# Altium integrated library ON Semi Transient Voltage Suppressors (TVS).IntLib: 730 symbols (part 4 of 17)
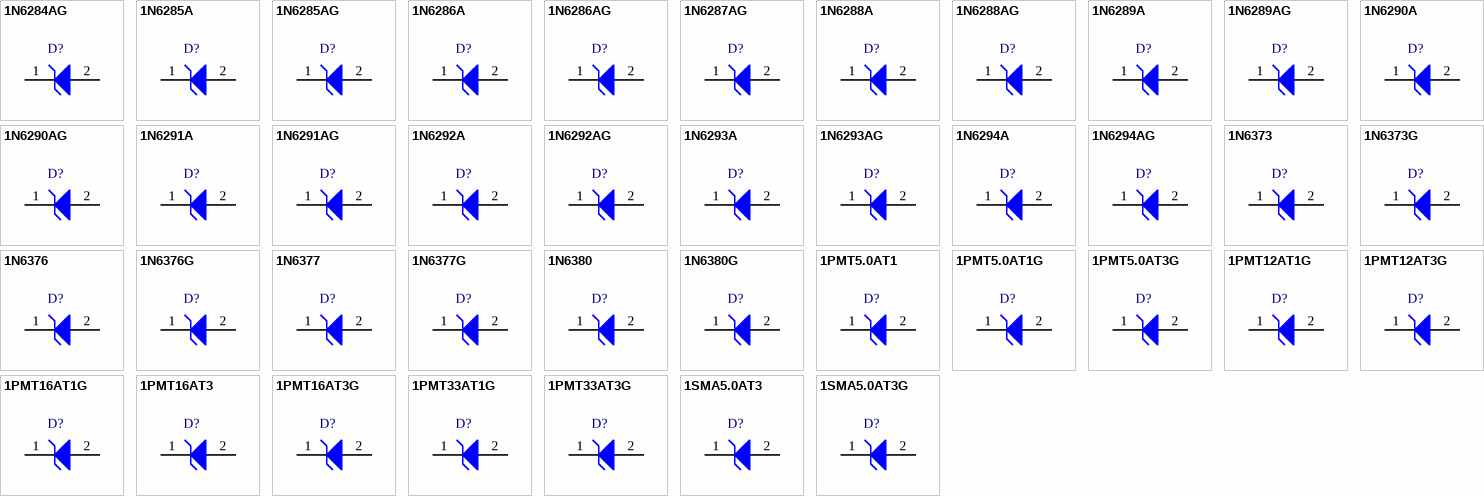
[diagram p21: symbols 1N6284AG to 1SMA5.0AT3G]

## 1N6376G
designator D?
1500 W Peak Power, Mosorb(TM) Zener Transient Voltage Suppressor, 2-Pin MOSORB, Pb-Free, Bulk Box; Manufacturer: On Semiconductor; PartNumber: 1N6376G; Direction: Unidirectional; IR Max (uA): 2; PPK Max (W): 1500; DatasheetVersion: Rev. 5; PackageVersion: Rev. D, 01/2002; PackageReference: MOSORB-2-41A-04; PackageDescription: 2-Pin, Axial Lead, Diameter 5.05 mm; Supplier 1: Digi-Key; Supplier Part Number 1: 1N6376GOS-ND; Supplier 2: Farnell; Supplier Part Number 2: 1651574; Supplier 3: Newark; Supplier Part Number 3: 42K3063; Supplier 4: Mouser; Supplier Part Number 4: 863-1N6376G; Packing: Bulk Box; RoHS: Pb-Free; Mounting Technology: Through Hole; ComponentLink1Description: Manufacturer URL; ComponentLink1URL: http://www.onsemi.com/; ComponentLink2Description: Datasheet; ComponentLink2URL: http://www.onsemi.com/pub_link/Collateral/1N6373-D.PDF; ComponentLink3Description: Package Specification; ComponentLink3URL: http://www.onsemi.com/pub_link/Collateral/41A-04.PDF
footprint ONSC-MOSORB-2-41A-04 (AXIAL, 2-Leads, Diameter 5.05mm)
pins: 1 K, 2 A

## 1N6377
designator D?
1500 W Peak Power, Mosorb(TM) Zener Transient Voltage Suppressor, 2-Pin MOSORB, Bulk Box; Manufacturer: On Semiconductor; PartNumber: 1N6377; Direction: Unidirectional; IR Max (uA): 2; PPK Max (W): 1500; DatasheetVersion: Rev. 5; PackageVersion: Rev. D, 01/2002; PackageReference: MOSORB-2-41A-04; PackageDescription: 2-Pin, Axial Lead, Diameter 5.05 mm; Supplier 1: Digi-Key; Supplier Part Number 1: 1N6377OS-ND; Packing: Bulk Box; Mounting Technology: Through Hole; ComponentLink1Description: Manufacturer URL; ComponentLink1URL: http://www.onsemi.com/; ComponentLink2Description: Datasheet; ComponentLink2URL: http://www.onsemi.com/pub_link/Collateral/1N6373-D.PDF; ComponentLink3Description: Package Specification; ComponentLink3URL: http://www.onsemi.com/pub_link/Collateral/41A-04.PDF
footprint ONSC-MOSORB-2-41A-04 (AXIAL, 2-Leads, Diameter 5.05mm)
pins: 1 K, 2 A

## 1N6377G
designator D?
1500 W Peak Power, Mosorb(TM) Zener Transient Voltage Suppressor, 2-Pin MOSORB, Pb-Free, Bulk Box; Manufacturer: On Semiconductor; PartNumber: 1N6377G; Direction: Unidirectional; IR Max (uA): 2; PPK Max (W): 1500; DatasheetVersion: Rev. 5; PackageVersion: Rev. D, 01/2002; PackageReference: MOSORB-2-41A-04; PackageDescription: 2-Pin, Axial Lead, Diameter 5.05 mm; Supplier 1: Digi-Key; Supplier Part Number 1: 1N6377GOS-ND; Supplier 2: Farnell; Supplier Part Number 2: 1611211; Supplier 3: Newark; Supplier Part Number 3: 42K3065; Supplier 4: Mouser; Supplier Part Number 4: 863-1N6377G; Packing: Bulk Box; RoHS: Pb-Free; Mounting Technology: Through Hole; ComponentLink1Description: Manufacturer URL; ComponentLink1URL: http://www.onsemi.com/; ComponentLink2Description: Datasheet; ComponentLink2URL: http://www.onsemi.com/pub_link/Collateral/1N6373-D.PDF; ComponentLink3Description: Package Specification; ComponentLink3URL: http://www.onsemi.com/pub_link/Collateral/41A-04.PDF
footprint ONSC-MOSORB-2-41A-04 (AXIAL, 2-Leads, Diameter 5.05mm)
pins: 1 K, 2 A

## 1N6380
designator D?
1500 W Peak Power, Mosorb(TM) Zener Transient Voltage Suppressor, 2-Pin MOSORB, Bulk Box; Manufacturer: On Semiconductor; PartNumber: 1N6380; Direction: Unidirectional; IR Max (uA): 2; PPK Max (W): 1500; DatasheetVersion: Rev. 5; PackageVersion: Rev. D, 01/2002; PackageReference: MOSORB-2-41A-04; PackageDescription: 2-Pin, Axial Lead, Diameter 5.05 mm; Supplier 1: Digi-Key; Supplier Part Number 1: 1N6380OS-ND; Supplier 2: Mouser; Supplier Part Number 2: 863-1N6380; Packing: Bulk Box; Mounting Technology: Through Hole; ComponentLink1Description: Manufacturer URL; ComponentLink1URL: http://www.onsemi.com/; ComponentLink2Description: Datasheet; ComponentLink2URL: http://www.onsemi.com/pub_link/Collateral/1N6373-D.PDF; ComponentLink3Description: Package Specification; ComponentLink3URL: http://www.onsemi.com/pub_link/Collateral/41A-04.PDF
footprint ONSC-MOSORB-2-41A-04 (AXIAL, 2-Leads, Diameter 5.05mm)
pins: 1 K, 2 A

## 1N6380G
designator D?
1500 W Peak Power, Mosorb(TM) Zener Transient Voltage Suppressor, 2-Pin MOSORB, Pb-Free, Bulk Box; Manufacturer: On Semiconductor; PartNumber: 1N6380G; Direction: Unidirectional; IR Max (uA): 2; PPK Max (W): 1500; DatasheetVersion: Rev. 5; PackageVersion: Rev. D, 01/2002; PackageReference: MOSORB-2-41A-04; PackageDescription: 2-Pin, Axial Lead, Diameter 5.05 mm; Supplier 1: Digi-Key; Supplier Part Number 1: 1N6380GOS-ND; Supplier 2: Farnell; Supplier Part Number 2: 1459009; Supplier 3: Newark; Supplier Part Number 3: 42K3069; Supplier 4: Mouser; Supplier Part Number 4: 863-1N6380G; Packing: Bulk Box; RoHS: Pb-Free; Mounting Technology: Through Hole; ComponentLink1Description: Manufacturer URL; ComponentLink1URL: http://www.onsemi.com/; ComponentLink2Description: Datasheet; ComponentLink2URL: http://www.onsemi.com/pub_link/Collateral/1N6373-D.PDF; ComponentLink3Description: Package Specification; ComponentLink3URL: http://www.onsemi.com/pub_link/Collateral/41A-04.PDF
footprint ONSC-MOSORB-2-41A-04 (AXIAL, 2-Leads, Diameter 5.05mm)
pins: 1 K, 2 A

## 1PMT5.0AT1
designator D?
Zener Transient Voltage Suppressor, 2-Pin POWERMITE, Tape and Reel; Manufacturer: On Semiconductor; PartNumber: 1PMT5.0AT1; Direction: Unidirectional; IR Max (uA): 50; V(BR) Typ (V): 6.7; DatasheetVersion: Rev. 10; PackageVersion: Rev. F, 05/2013; PackageReference: POWERMITE-2-457-04; PackageDescription: 2-Pin POWERMITE, Body 1.965 x 1.9 mm; Supplier 1: Digi-Key; Supplier Part Number 1: 1PMT5.0AT1OSTR-ND; Supplier 2: Digi-Key; Supplier Part Number 2: 1PMT5.0AT1OSCT-ND; Supplier 3: Digi-Key; Supplier Part Number 3: 1PMT5.0AT1OSDKR-ND; Packing: Tape and Reel; Mounting Technology: Surface Mount; ComponentLink1Description: Manufacturer URL; ComponentLink1URL: http://www.onsemi.com/; ComponentLink2Description: Datasheet; ComponentLink2URL: http://www.onsemi.com/pub_link/Collateral/1PMT5.0AT3-D.PDF; ComponentLink3Description: Package Specification; ComponentLink3URL: http://www.onsemi.com/pub_link/Collateral/457-04.PDF
footprint ONSC-POWERMITE-2-457-04_D_V (POWERMITE, 2-Leads, Body 1.965x1.9mm)
pins: 1 K, 2 A

## 1PMT5.0AT1G
designator D?
Zener Transient Voltage Suppressor, 2-Pin POWERMITE, Pb-Free, Tape and Reel; Manufacturer: On Semiconductor; PartNumber: 1PMT5.0AT1G; Direction: Unidirectional; IR Max (uA): 50; V(BR) Typ (V): 6.7; DatasheetVersion: Rev. 10; PackageVersion: Rev. F, 05/2013; PackageReference: POWERMITE-2-457-04; PackageDescription: 2-Pin POWERMITE, Body 1.965 x 1.9 mm; Supplier 1: Digi-Key; Supplier Part Number 1: 1PMT5.0AT1GOSTR-ND; Supplier 2: Digi-Key; Supplier Part Number 2: 1PMT5.0AT1GOSCT-ND; Supplier 3: Digi-Key; Supplier Part Number 3: 1PMT5.0AT1GOSDKR-ND; Supplier 4: Farnell; Supplier Part Number 4: 2369440; Supplier 5: Newark; Supplier Part Number 5: 45J2402; Supplier 6: Newark; Supplier Part Number 6: 10N9647; Supplier 7: Mouser; Supplier Part Number 7: 863-1PMT5.0AT1G; Packing: Tape and Reel; RoHS: Pb-Free; Mounting Technology: Surface Mount; ComponentLink1Description: Manufacturer URL; ComponentLink1URL: http://www.onsemi.com/; ComponentLink2Description: Datasheet; ComponentLink2URL: http://www.onsemi.com/pub_link/Collateral/1PMT5.0AT3-D.PDF; ComponentLink3Description: Package Specification; ComponentLink3URL: http://www.onsemi.com/pub_link/Collateral/457-04.PDF
footprint ONSC-POWERMITE-2-457-04_D_V (POWERMITE, 2-Leads, Body 1.965x1.9mm)
pins: 1 K, 2 A

## 1PMT5.0AT3G
designator D?
Zener Transient Voltage Suppressor, 2-Pin POWERMITE, Pb-Free, Tape and Reel; Manufacturer: On Semiconductor; PartNumber: 1PMT5.0AT3G; Direction: Unidirectional; IR Max (uA): 50; V(BR) Typ (V): 6.7; DatasheetVersion: Rev. 10; PackageVersion: Rev. F, 05/2013; PackageReference: POWERMITE-2-457-04; PackageDescription: 2-Pin POWERMITE, Body 1.965 x 1.9 mm; Supplier 1: Digi-Key; Supplier Part Number 1: 1PMT5.0AT3G-ND; Supplier 2: Mouser; Supplier Part Number 2: 863-1PMT5.0AT3G; Packing: Tape and Reel; RoHS: Pb-Free; Mounting Technology: Surface Mount; ComponentLink1Description: Manufacturer URL; ComponentLink1URL: http://www.onsemi.com/; ComponentLink2Description: Datasheet; ComponentLink2URL: http://www.onsemi.com/pub_link/Collateral/1PMT5.0AT3-D.PDF; ComponentLink3Description: Package Specification; ComponentLink3URL: http://www.onsemi.com/pub_link/Collateral/457-04.PDF
footprint ONSC-POWERMITE-2-457-04_D_V (POWERMITE, 2-Leads, Body 1.965x1.9mm)
pins: 1 K, 2 A

## 1PMT12AT1G
designator D?
Zener Transient Voltage Suppressor, 2-Pin POWERMITE, Pb-Free, Tape and Reel; Manufacturer: On Semiconductor; PartNumber: 1PMT12AT1G; Direction: Unidirectional; IR Max (uA): 1; V(BR) Typ (V): 14; DatasheetVersion: Rev. 10; PackageVersion: Rev. F, 05/2013; PackageReference: POWERMITE-2-457-04; PackageDescription: 2-Pin POWERMITE, Body 1.965 x 1.9 mm; Supplier 1: Digi-Key; Supplier Part Number 1: 1PMT12AT1GOSTR-ND; Supplier 2: Digi-Key; Supplier Part Number 2: 1PMT12AT1GOSCT-ND; Supplier 3: Digi-Key; Supplier Part Number 3: 1PMT12AT1GOSDKR-ND; Supplier 4: Newark; Supplier Part Number 4: 45J2399; Supplier 5: Mouser; Supplier Part Number 5: 863-1PMT12AT1G; Packing: Tape and Reel; RoHS: Pb-Free; Mounting Technology: Surface Mount; ComponentLink1Description: Manufacturer URL; ComponentLink1URL: http://www.onsemi.com/; ComponentLink2Description: Datasheet; ComponentLink2URL: http://www.onsemi.com/pub_link/Collateral/1PMT5.0AT3-D.PDF; ComponentLink3Description: Package Specification; ComponentLink3URL: http://www.onsemi.com/pub_link/Collateral/457-04.PDF
footprint ONSC-POWERMITE-2-457-04_D_V (POWERMITE, 2-Leads, Body 1.965x1.9mm)
pins: 1 K, 2 A

## 1PMT12AT3G
designator D?
Zener Transient Voltage Suppressor, 2-Pin POWERMITE, Pb-Free, Tape and Reel; Manufacturer: On Semiconductor; PartNumber: 1PMT12AT3G; Direction: Unidirectional; IR Max (uA): 1; V(BR) Typ (V): 14; DatasheetVersion: Rev. 10; PackageVersion: Rev. F, 05/2013; PackageReference: POWERMITE-2-457-04; PackageDescription: 2-Pin POWERMITE, Body 1.965 x 1.9 mm; Supplier 1: Digi-Key; Supplier Part Number 1: 1PMT12AT3G-ND; Supplier 2: Mouser; Supplier Part Number 2: 863-1PMT12AT3G; Packing: Tape and Reel; RoHS: Pb-Free; Mounting Technology: Surface Mount; ComponentLink1Description: Manufacturer URL; ComponentLink1URL: http://www.onsemi.com/; ComponentLink2Description: Datasheet; ComponentLink2URL: http://www.onsemi.com/pub_link/Collateral/1PMT5.0AT3-D.PDF; ComponentLink3Description: Package Specification; ComponentLink3URL: http://www.onsemi.com/pub_link/Collateral/457-04.PDF
footprint ONSC-POWERMITE-2-457-04_D_V (POWERMITE, 2-Leads, Body 1.965x1.9mm)
pins: 1 K, 2 A

## 1PMT16AT1G
designator D?
Zener Transient Voltage Suppressor, 2-Pin POWERMITE, Pb-Free, Tape and Reel; Manufacturer: On Semiconductor; PartNumber: 1PMT16AT1G; Direction: Unidirectional; IR Max (uA): 1; V(BR) Typ (V): 18.75; DatasheetVersion: Rev. 10; PackageVersion: Rev. F, 05/2013; PackageReference: POWERMITE-2-457-04; PackageDescription: 2-Pin POWERMITE, Body 1.965 x 1.9 mm; Supplier 1: Digi-Key; Supplier Part Number 1: 1PMT16AT1GOSTR-ND; Supplier 2: Digi-Key; Supplier Part Number 2: 1PMT16AT1GOSCT-ND; Supplier 3: Mouser; Supplier Part Number 3: 863-1PMT16AT1G; Packing: Tape and Reel; RoHS: Pb-Free; Mounting Technology: Surface Mount; ComponentLink1Description: Manufacturer URL; ComponentLink1URL: http://www.onsemi.com/; ComponentLink2Description: Datasheet; ComponentLink2URL: http://www.onsemi.com/pub_link/Collateral/1PMT5.0AT3-D.PDF; ComponentLink3Description: Package Specification; ComponentLink3URL: http://www.onsemi.com/pub_link/Collateral/457-04.PDF
footprint ONSC-POWERMITE-2-457-04_D_V (POWERMITE, 2-Leads, Body 1.965x1.9mm)
pins: 1 K, 2 A

## 1PMT16AT3
designator D?
Zener Transient Voltage Suppressor, 2-Pin POWERMITE, Tape and Reel; Manufacturer: On Semiconductor; PartNumber: 1PMT16AT3; Direction: Unidirectional; IR Max (uA): 1; V(BR) Typ (V): 18.75; DatasheetVersion: Rev. 10; PackageVersion: Rev. F, 05/2013; PackageReference: POWERMITE-2-457-04; PackageDescription: 2-Pin POWERMITE, Body 1.965 x 1.9 mm; Supplier 1: Digi-Key; Supplier Part Number 1: 1PMT16AT3-ND; Packing: Tape and Reel; Mounting Technology: Surface Mount; ComponentLink1Description: Manufacturer URL; ComponentLink1URL: http://www.onsemi.com/; ComponentLink2Description: Datasheet; ComponentLink2URL: http://www.onsemi.com/pub_link/Collateral/1PMT5.0AT3-D.PDF; ComponentLink3Description: Package Specification; ComponentLink3URL: http://www.onsemi.com/pub_link/Collateral/457-04.PDF
footprint ONSC-POWERMITE-2-457-04_D_V (POWERMITE, 2-Leads, Body 1.965x1.9mm)
pins: 1 K, 2 A

## 1PMT16AT3G
designator D?
Zener Transient Voltage Suppressor, 2-Pin POWERMITE, Pb-Free, Tape and Reel; Manufacturer: On Semiconductor; PartNumber: 1PMT16AT3G; Direction: Unidirectional; IR Max (uA): 1; V(BR) Typ (V): 18.75; DatasheetVersion: Rev. 10; PackageVersion: Rev. F, 05/2013; PackageReference: POWERMITE-2-457-04; PackageDescription: 2-Pin POWERMITE, Body 1.965 x 1.9 mm; Supplier 1: Digi-Key; Supplier Part Number 1: 1PMT16AT3GOS-ND; Supplier 2: Newark; Supplier Part Number 2: 83H7916; Supplier 3: Mouser; Supplier Part Number 3: 863-1PMT16AT3G; Packing: Tape and Reel; RoHS: Pb-Free; Mounting Technology: Surface Mount; ComponentLink1Description: Manufacturer URL; ComponentLink1URL: http://www.onsemi.com/; ComponentLink2Description: Datasheet; ComponentLink2URL: http://www.onsemi.com/pub_link/Collateral/1PMT5.0AT3-D.PDF; ComponentLink3Description: Package Specification; ComponentLink3URL: http://www.onsemi.com/pub_link/Collateral/457-04.PDF
footprint ONSC-POWERMITE-2-457-04_D_V (POWERMITE, 2-Leads, Body 1.965x1.9mm)
pins: 1 K, 2 A

## 1PMT33AT1G
designator D?
Zener Transient Voltage Suppressor, 2-Pin POWERMITE, Pb-Free, Tape and Reel; Manufacturer: On Semiconductor; PartNumber: 1PMT33AT1G; Direction: Unidirectional; IR Max (uA): 1; V(BR) Typ (V): 38.7; DatasheetVersion: Rev. 10; PackageVersion: Rev. F, 05/2013; PackageReference: POWERMITE-2-457-04; PackageDescription: 2-Pin POWERMITE, Body 1.965 x 1.9 mm; Supplier 1: Digi-Key; Supplier Part Number 1: 1PMT33AT1GOS-ND; Supplier 2: Mouser; Supplier Part Number 2: 863-1PMT33AT1G; Packing: Tape and Reel; RoHS: Pb-Free; Mounting Technology: Surface Mount; ComponentLink1Description: Manufacturer URL; ComponentLink1URL: http://www.onsemi.com/; ComponentLink2Description: Datasheet; ComponentLink2URL: http://www.onsemi.com/pub_link/Collateral/1PMT5.0AT3-D.PDF; ComponentLink3Description: Package Specification; ComponentLink3URL: http://www.onsemi.com/pub_link/Collateral/457-04.PDF
footprint ONSC-POWERMITE-2-457-04_D_V (POWERMITE, 2-Leads, Body 1.965x1.9mm)
pins: 1 K, 2 A

## 1PMT33AT3G
designator D?
Zener Transient Voltage Suppressor, 2-Pin POWERMITE, Pb-Free, Tape and Reel; Manufacturer: On Semiconductor; PartNumber: 1PMT33AT3G; Direction: Unidirectional; IR Max (uA): 1; V(BR) Typ (V): 38.7; DatasheetVersion: Rev. 10; PackageVersion: Rev. F, 05/2013; PackageReference: POWERMITE-2-457-04; PackageDescription: 2-Pin POWERMITE, Body 1.965 x 1.9 mm; Supplier 1: Digi-Key; Supplier Part Number 1: 1PMT33AT3GOSTR-ND; Supplier 2: Digi-Key; Supplier Part Number 2: 1PMT33AT3GOSCT-ND; Supplier 3: Newark; Supplier Part Number 3: 26K5240; Supplier 4: Mouser; Supplier Part Number 4: 863-1PMT33AT3G; Packing: Tape and Reel; RoHS: Pb-Free; Mounting Technology: Surface Mount; ComponentLink1Description: Manufacturer URL; ComponentLink1URL: http://www.onsemi.com/; ComponentLink2Description: Datasheet; ComponentLink2URL: http://www.onsemi.com/pub_link/Collateral/1PMT5.0AT3-D.PDF; ComponentLink3Description: Package Specification; ComponentLink3URL: http://www.onsemi.com/pub_link/Collateral/457-04.PDF
footprint ONSC-POWERMITE-2-457-04_D_V (POWERMITE, 2-Leads, Body 1.965x1.9mm)
pins: 1 K, 2 A

## 1SMA5.0AT3
designator D?
400 W Peak Power Zener Transient Voltage Suppressor, 2-Pin SMA, Tape and Reel; Manufacturer: On Semiconductor; PartNumber: 1SMA5.0AT3; Direction: Unidirectional; IR Max (uA): 400; V(BR) Typ (V): 6.7; DatasheetVersion: Rev. 14; PackageVersion: Rev. F, 11/2008; PackageReference: SMA-2-403D-02_F; PackageDescription: 2-Pin Small Molded Package, J-Bend Lead, Body 2.605 x 4.315 mm; Supplier 1: Digi-Key; Supplier Part Number 1: 1SMA5.0AT3OSTR-ND; Supplier 2: Digi-Key; Supplier Part Number 2: 1SMA5.0AT3OSCT-ND; Supplier 3: Digi-Key; Supplier Part Number 3: 1SMA5.0AT3OSDKR-ND; Packing: Tape and Reel; PPK Max (W): 400; Mounting Technology: Surface Mount; ComponentLink1Description: Manufacturer URL; ComponentLink1URL: http://www.onsemi.com/; ComponentLink2Description: Datasheet; ComponentLink2URL: http://www.onsemi.com/pub_link/Collateral/1SMA5.0AT3-D.PDF; ComponentLink3Description: Package Specification; ComponentLink3URL: http://www.onsemi.com/pub_link/Collateral/1SMA5913BT3-D.PDF
footprint ONSC-SMA-2-403D-02_F_V (Molded, 2-Leads, Body 4.32x2.6mm)
pins: 1 K, 2 A

## 1SMA5.0AT3G
designator D?
400 W Peak Power Zener Transient Voltage Suppressor, 2-Pin SMA, Pb-Free, Tape and Reel; Manufacturer: On Semiconductor; PartNumber: 1SMA5.0AT3G; Direction: Unidirectional; IR Max (uA): 400; V(BR) Typ (V): 6.7; DatasheetVersion: Rev. 14; PackageVersion: Rev. F, 11/2008; PackageReference: SMA-2-403D-02_F; PackageDescription: 2-Pin Small Molded Package, J-Bend Lead, Body 2.605 x 4.315 mm; Supplier 1: Digi-Key; Supplier Part Number 1: 1SMA5.0AT3GOSTR-ND; Supplier 2: Digi-Key; Supplier Part Number 2: 1SMA5.0AT3GOSCT-ND; Supplier 3: Digi-Key; Supplier Part Number 3: 1SMA5.0AT3GOSDKR-ND; Supplier 4: Farnell; Supplier Part Number 4: 1651634; Supplier 5: Farnell; Supplier Part Number 5: 1651634RL; Supplier 6: Newark; Supplier Part Number 6: 98H1010; Supplier 7: Mouser; Supplier Part Number 7: 863-1SMA5.0AT3G; Packing: Tape and Reel; PPK Max (W): 400; RoHS: Pb-Free; Mounting Technology: Surface Mount; ComponentLink1Description: Manufacturer URL; ComponentLink1URL: http://www.onsemi.com/; ComponentLink2Description: Datasheet; ComponentLink2URL: http://www.onsemi.com/pub_link/Collateral/1SMA5.0AT3-D.PDF; ComponentLink3Description: Package Specification; ComponentLink3URL: http://www.onsemi.com/pub_link/Collateral/1SMA5913BT3-D.PDF
footprint ONSC-SMA-2-403D-02_F_V (Molded, 2-Leads, Body 4.32x2.6mm)
pins: 1 K, 2 A

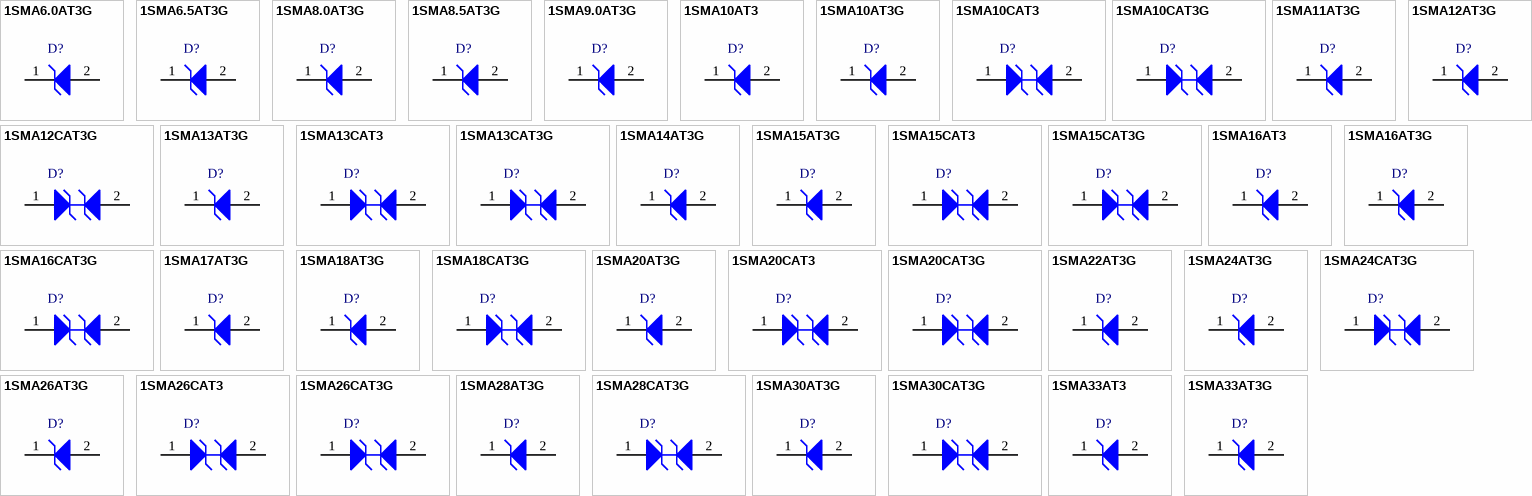
[diagram p4: symbols 1SMA6.0AT3G to 1SMA33AT3G]

## 1SMA6.0AT3G
designator D?
400 W Peak Power Zener Transient Voltage Suppressor, 2-Pin SMA, Pb-Free, Tape and Reel; Manufacturer: On Semiconductor; PartNumber: 1SMA6.0AT3G; Direction: Unidirectional; IR Max (uA): 400; V(BR) Typ (V): 7.02; DatasheetVersion: Rev. 14; PackageVersion: Rev. F, 11/2008; PackageReference: SMA-2-403D-02_F; PackageDescription: 2-Pin Small Molded Package, J-Bend Lead, Body 2.605 x 4.315 mm; Supplier 1: Digi-Key; Supplier Part Number 1: 1SMA6.0AT3GOSTR-ND; Supplier 2: Digi-Key; Supplier Part Number 2: 1SMA6.0AT3GOSCT-ND; Supplier 3: Digi-Key; Supplier Part Number 3: 1SMA6.0AT3GOSDKR-ND; Supplier 4: Mouser; Supplier Part Number 4: 863-1SMA6.0AT3G; Packing: Tape and Reel; PPK Max (W): 400; RoHS: Pb-Free; Mounting Technology: Surface Mount; ComponentLink1Description: Manufacturer URL; ComponentLink1URL: http://www.onsemi.com/; ComponentLink2Description: Datasheet; ComponentLink2URL: http://www.onsemi.com/pub_link/Collateral/1SMA5.0AT3-D.PDF; ComponentLink3Description: Package Specification; ComponentLink3URL: http://www.onsemi.com/pub_link/Collateral/1SMA5913BT3-D.PDF
footprint ONSC-SMA-2-403D-02_F_V (Molded, 2-Leads, Body 4.32x2.6mm)
pins: 1 K, 2 A

## 1SMA6.5AT3G
designator D?
400 W Peak Power Zener Transient Voltage Suppressor, 2-Pin SMA, Pb-Free, Tape and Reel; Manufacturer: On Semiconductor; PartNumber: 1SMA6.5AT3G; Direction: Unidirectional; IR Max (uA): 250; PPK Max (W): 400; V(BR) Typ (V): 7.6; DatasheetVersion: Rev. 14; PackageVersion: Rev. F, 11/2008; PackageReference: SMA-2-403D-02_F; PackageDescription: 2-Pin Small Molded Package, J-Bend Lead, Body 2.605 x 4.315 mm; Supplier 1: Digi-Key; Supplier Part Number 1: 1SMA6.5AT3G-ND; Supplier 2: Mouser; Supplier Part Number 2: 863-1SMA6.5AT3G; Packing: Tape and Reel; RoHS: Pb-Free; Mounting Technology: Surface Mount; ComponentLink1Description: Manufacturer URL; ComponentLink1URL: http://www.onsemi.com/; ComponentLink2Description: Datasheet; ComponentLink2URL: http://www.onsemi.com/pub_link/Collateral/1SMA5.0AT3-D.PDF; ComponentLink3Description: Package Specification; ComponentLink3URL: http://www.onsemi.com/pub_link/Collateral/1SMA5913BT3-D.PDF
footprint ONSC-SMA-2-403D-02_F_V (Molded, 2-Leads, Body 4.32x2.6mm)
pins: 1 K, 2 A

## 1SMA8.0AT3G
designator D?
400 W Peak Power Zener Transient Voltage Suppressor, 2-Pin SMA, Pb-Free, Tape and Reel; Manufacturer: On Semiconductor; PartNumber: 1SMA8.0AT3G; Direction: Unidirectional; IR Max (uA): 25; PPK Max (W): 400; V(BR) Typ (V): 9.36; DatasheetVersion: Rev. 14; PackageVersion: Rev. F, 11/2008; PackageReference: SMA-2-403D-02_F; PackageDescription: 2-Pin Small Molded Package, J-Bend Lead, Body 2.605 x 4.315 mm; Supplier 1: Digi-Key; Supplier Part Number 1: 1SMA8.0AT3G-ND; Supplier 2: Newark; Supplier Part Number 2: 42K3079; Supplier 3: Mouser; Supplier Part Number 3: 863-1SMA8.0AT3G; Packing: Tape and Reel; RoHS: Pb-Free; Mounting Technology: Surface Mount; ComponentLink1Description: Manufacturer URL; ComponentLink1URL: http://www.onsemi.com/; ComponentLink2Description: Datasheet; ComponentLink2URL: http://www.onsemi.com/pub_link/Collateral/1SMA5.0AT3-D.PDF; ComponentLink3Description: Package Specification; ComponentLink3URL: http://www.onsemi.com/pub_link/Collateral/1SMA5913BT3-D.PDF
footprint ONSC-SMA-2-403D-02_F_V (Molded, 2-Leads, Body 4.32x2.6mm)
pins: 1 K, 2 A

## 1SMA8.5AT3G
designator D?
400 W Peak Power Zener Transient Voltage Suppressor, 2-Pin SMA, Pb-Free, Tape and Reel; Manufacturer: On Semiconductor; PartNumber: 1SMA8.5AT3G; Direction: Unidirectional; IR Max (uA): 5; PPK Max (W): 400; V(BR) Typ (V): 9.92; DatasheetVersion: Rev. 14; PackageVersion: Rev. F, 11/2008; PackageReference: SMA-2-403D-02_F; PackageDescription: 2-Pin Small Molded Package, J-Bend Lead, Body 2.605 x 4.315 mm; Supplier 1: Digi-Key; Supplier Part Number 1: 1SMA8.5AT3G-ND; Supplier 2: Newark; Supplier Part Number 2: 70K7007; Supplier 3: Mouser; Supplier Part Number 3: 863-1SMA8.5AT3G; Packing: Tape and Reel; RoHS: Pb-Free; Mounting Technology: Surface Mount; ComponentLink1Description: Manufacturer URL; ComponentLink1URL: http://www.onsemi.com/; ComponentLink2Description: Datasheet; ComponentLink2URL: http://www.onsemi.com/pub_link/Collateral/1SMA5.0AT3-D.PDF; ComponentLink3Description: Package Specification; ComponentLink3URL: http://www.onsemi.com/pub_link/Collateral/1SMA5913BT3-D.PDF
footprint ONSC-SMA-2-403D-02_F_V (Molded, 2-Leads, Body 4.32x2.6mm)
pins: 1 K, 2 A

## 1SMA9.0AT3G
designator D?
400 W Peak Power Zener Transient Voltage Suppressor, 2-Pin SMA, Pb-Free, Tape and Reel; Manufacturer: On Semiconductor; PartNumber: 1SMA9.0AT3G; Direction: Unidirectional; IR Max (uA): 2.5; PPK Max (W): 400; V(BR) Typ (V): 10.55; DatasheetVersion: Rev. 14; PackageVersion: Rev. F, 11/2008; PackageReference: SMA-2-403D-02_F; PackageDescription: 2-Pin Small Molded Package, J-Bend Lead, Body 2.605 x 4.315 mm; Supplier 1: Digi-Key; Supplier Part Number 1: 1SMA9.0AT3GOSTR-ND; Supplier 2: Digi-Key; Supplier Part Number 2: 1SMA9.0AT3GOSCT-ND; Supplier 3: Digi-Key; Supplier Part Number 3: 1SMA9.0AT3GOSDKR-ND; Supplier 4: Newark; Supplier Part Number 4: 71J9203; Supplier 5: Mouser; Supplier Part Number 5: 863-1SMA9.0AT3G; Packing: Tape and Reel; RoHS: Pb-Free; Mounting Technology: Surface Mount; ComponentLink1Description: Manufacturer URL; ComponentLink1URL: http://www.onsemi.com/; ComponentLink2Description: Datasheet; ComponentLink2URL: http://www.onsemi.com/pub_link/Collateral/1SMA5.0AT3-D.PDF; ComponentLink3Description: Package Specification; ComponentLink3URL: http://www.onsemi.com/pub_link/Collateral/1SMA5913BT3-D.PDF
footprint ONSC-SMA-2-403D-02_F_V (Molded, 2-Leads, Body 4.32x2.6mm)
pins: 1 K, 2 A

## 1SMA10AT3
designator D?
400 W Peak Power Zener Transient Voltage Suppressor, 2-Pin SMA, Tape and Reel; Manufacturer: On Semiconductor; PartNumber: 1SMA10AT3; Direction: Unidirectional; IR Max (uA): 2.5; PPK Max (W): 400; V(BR) Typ (V): 11.7; DatasheetVersion: Rev. 14; PackageVersion: Rev. F, 11/2008; PackageReference: SMA-2-403D-02_F; PackageDescription: 2-Pin Small Molded Package, J-Bend Lead, Body 2.605 x 4.315 mm; Packing: Tape and Reel; Mounting Technology: Surface Mount; ComponentLink1Description: Manufacturer URL; ComponentLink1URL: http://www.onsemi.com/; ComponentLink2Description: Datasheet; ComponentLink2URL: http://www.onsemi.com/pub_link/Collateral/1SMA5.0AT3-D.PDF; ComponentLink3Description: Package Specification; ComponentLink3URL: http://www.onsemi.com/pub_link/Collateral/1SMA5913BT3-D.PDF
footprint ONSC-SMA-2-403D-02_F_V (Molded, 2-Leads, Body 4.32x2.6mm)
pins: 1 K, 2 A

## 1SMA10AT3G
designator D?
400 W Peak Power Zener Transient Voltage Suppressor, 2-Pin SMA, Pb-Free, Tape and Reel; Manufacturer: On Semiconductor; PartNumber: 1SMA10AT3G; Direction: Unidirectional; IR Max (uA): 2.5; PPK Max (W): 400; V(BR) Typ (V): 11.7; DatasheetVersion: Rev. 14; PackageVersion: Rev. F, 11/2008; PackageReference: SMA-2-403D-02_F; PackageDescription: 2-Pin Small Molded Package, J-Bend Lead, Body 2.605 x 4.315 mm; Supplier 1: Digi-Key; Supplier Part Number 1: 1SMA10AT3G-ND; Supplier 2: Newark; Supplier Part Number 2: 26K5242; Supplier 3: Mouser; Supplier Part Number 3: 863-1SMA10AT3G; Packing: Tape and Reel; RoHS: Pb-Free; Mounting Technology: Surface Mount; ComponentLink1Description: Manufacturer URL; ComponentLink1URL: http://www.onsemi.com/; ComponentLink2Description: Datasheet; ComponentLink2URL: http://www.onsemi.com/pub_link/Collateral/1SMA5.0AT3-D.PDF; ComponentLink3Description: Package Specification; ComponentLink3URL: http://www.onsemi.com/pub_link/Collateral/1SMA5913BT3-D.PDF
footprint ONSC-SMA-2-403D-02_F_V (Molded, 2-Leads, Body 4.32x2.6mm)
pins: 1 K, 2 A

## 1SMA10CAT3
designator D?
400 W Peak Power Zener Transient Voltage Suppressor, 2-Pin SMA, Tape and Reel; Manufacturer: On Semiconductor; PartNumber: 1SMA10CAT3; Direction: Bidirectional; IR Max (uA): 2.5; PPK Max (W): 400; V(BR) Typ (V): 11.69; DatasheetVersion: Rev. 12; PackageVersion: Rev. F, 11/2008; PackageReference: SMA-2-403D-02_F; PackageDescription: 2-Pin Small Molded Package, J-Bend Lead, Body 2.605 x 4.315 mm; Supplier 1: Digi-Key; Supplier Part Number 1: 1SMA10CAT3OSTR-ND; Supplier 2: Digi-Key; Supplier Part Number 2: 1SMA10CAT3OSCT-ND; Supplier 3: Digi-Key; Supplier Part Number 3: 1SMA10CAT3OSDKR-ND; Packing: Tape and Reel; Mounting Technology: Surface Mount; ComponentLink1Description: Manufacturer URL; ComponentLink1URL: http://www.onsemi.com/; ComponentLink2Description: Datasheet; ComponentLink2URL: http://www.onsemi.com/pub_link/Collateral/1SMA10CAT3-D.PDF; ComponentLink3Description: Package Specification; ComponentLink3URL: http://www.onsemi.com/pub_link/Collateral/1SMA5913BT3-D.PDF
footprint ONSC-SMA-2-403D-02_F_V (Molded, 2-Leads, Body 4.32x2.6mm)
pins: 1 A1, 2 A2

## 1SMA10CAT3G
designator D?
400 W Peak Power Zener Transient Voltage Suppressor, 2-Pin SMA, Pb-Free, Tape and Reel; Manufacturer: On Semiconductor; PartNumber: 1SMA10CAT3G; Direction: Bidirectional; IR Max (uA): 2.5; PPK Max (W): 400; V(BR) Typ (V): 11.69; DatasheetVersion: Rev. 12; PackageVersion: Rev. F, 11/2008; PackageReference: SMA-2-403D-02_F; PackageDescription: 2-Pin Small Molded Package, J-Bend Lead, Body 2.605 x 4.315 mm; Supplier 1: Digi-Key; Supplier Part Number 1: 1SMA10CAT3GOSTR-ND; Supplier 2: Digi-Key; Supplier Part Number 2: 1SMA10CAT3GOSCT-ND; Supplier 3: Digi-Key; Supplier Part Number 3: 1SMA10CAT3GOSDKR-ND; Supplier 4: Farnell; Supplier Part Number 4: 2369101; Supplier 5: Farnell; Supplier Part Number 5: 1861236; Supplier 6: Newark; Supplier Part Number 6: 09R9802; Supplier 7: Mouser; Supplier Part Number 7: 863-1SMA10CAT3G; Packing: Tape and Reel; RoHS: Pb-Free; Mounting Technology: Surface Mount; ComponentLink1Description: Manufacturer URL; ComponentLink1URL: http://www.onsemi.com/; ComponentLink2Description: Datasheet; ComponentLink2URL: http://www.onsemi.com/pub_link/Collateral/1SMA10CAT3-D.PDF; ComponentLink3Description: Package Specification; ComponentLink3URL: http://www.onsemi.com/pub_link/Collateral/1SMA5913BT3-D.PDF
footprint ONSC-SMA-2-403D-02_F_V (Molded, 2-Leads, Body 4.32x2.6mm)
pins: 1 A1, 2 A2

## 1SMA11AT3G
designator D?
400 W Peak Power Zener Transient Voltage Suppressor, 2-Pin SMA, Pb-Free, Tape and Reel; Manufacturer: On Semiconductor; PartNumber: 1SMA11AT3G; Direction: Unidirectional; IR Max (uA): 2.5; PPK Max (W): 400; V(BR) Typ (V): 12.85; DatasheetVersion: Rev. 14; PackageVersion: Rev. F, 11/2008; PackageReference: SMA-2-403D-02_F; PackageDescription: 2-Pin Small Molded Package, J-Bend Lead, Body 2.605 x 4.315 mm; Supplier 1: Digi-Key; Supplier Part Number 1: 1SMA11AT3G-ND; Supplier 2: Mouser; Supplier Part Number 2: 863-1SMA11AT3G; Packing: Tape and Reel; RoHS: Pb-Free; Mounting Technology: Surface Mount; ComponentLink1Description: Manufacturer URL; ComponentLink1URL: http://www.onsemi.com/; ComponentLink2Description: Datasheet; ComponentLink2URL: http://www.onsemi.com/pub_link/Collateral/1SMA5.0AT3-D.PDF; ComponentLink3Description: Package Specification; ComponentLink3URL: http://www.onsemi.com/pub_link/Collateral/1SMA5913BT3-D.PDF
footprint ONSC-SMA-2-403D-02_F_V (Molded, 2-Leads, Body 4.32x2.6mm)
pins: 1 K, 2 A

## 1SMA12AT3G
designator D?
400 W Peak Power Zener Transient Voltage Suppressor, 2-Pin SMA, Pb-Free, Tape and Reel; Manufacturer: On Semiconductor; PartNumber: 1SMA12AT3G; Direction: Unidirectional; IR Max (uA): 2.5; PPK Max (W): 400; V(BR) Typ (V): 14; DatasheetVersion: Rev. 14; PackageVersion: Rev. F, 11/2008; PackageReference: SMA-2-403D-02_F; PackageDescription: 2-Pin Small Molded Package, J-Bend Lead, Body 2.605 x 4.315 mm; Supplier 1: Digi-Key; Supplier Part Number 1: 1SMA12AT3GOSTR-ND; Supplier 2: Digi-Key; Supplier Part Number 2: 1SMA12AT3GOSCT-ND; Supplier 3: Digi-Key; Supplier Part Number 3: 1SMA12AT3GOSDKR-ND; Supplier 4: Newark; Supplier Part Number 4: 98H1001; Supplier 5: Newark; Supplier Part Number 5: 10N9649; Supplier 6: Mouser; Supplier Part Number 6: 863-1SMA12AT3G; Packing: Tape and Reel; RoHS: Pb-Free; Mounting Technology: Surface Mount; ComponentLink1Description: Manufacturer URL; ComponentLink1URL: http://www.onsemi.com/; ComponentLink2Description: Datasheet; ComponentLink2URL: http://www.onsemi.com/pub_link/Collateral/1SMA5.0AT3-D.PDF; ComponentLink3Description: Package Specification; ComponentLink3URL: http://www.onsemi.com/pub_link/Collateral/1SMA5913BT3-D.PDF
footprint ONSC-SMA-2-403D-02_F_V (Molded, 2-Leads, Body 4.32x2.6mm)
pins: 1 K, 2 A

## 1SMA12CAT3G
designator D?
400 W Peak Power Zener Transient Voltage Suppressor, 2-Pin SMA, Pb-Free, Tape and Reel; Manufacturer: On Semiconductor; PartNumber: 1SMA12CAT3G; Direction: Bidirectional; IR Max (uA): 2.5; PPK Max (W): 400; V(BR) Typ (V): 14; DatasheetVersion: Rev. 12; PackageVersion: Rev. F, 11/2008; PackageReference: SMA-2-403D-02_F; PackageDescription: 2-Pin Small Molded Package, J-Bend Lead, Body 2.605 x 4.315 mm; Supplier 1: Digi-Key; Supplier Part Number 1: 1SMA12CAT3GOSTR-ND; Supplier 2: Digi-Key; Supplier Part Number 2: 1SMA12CAT3GOSCT-ND; Supplier 3: Digi-Key; Supplier Part Number 3: 1SMA12CAT3GOSDKR-ND; Supplier 4: Farnell; Supplier Part Number 4: 2369441; Supplier 5: Newark; Supplier Part Number 5: 10N9650; Supplier 6: Mouser; Supplier Part Number 6: 863-1SMA12CAT3G; Packing: Tape and Reel; RoHS: Pb-Free; Mounting Technology: Surface Mount; ComponentLink1Description: Manufacturer URL; ComponentLink1URL: http://www.onsemi.com/; ComponentLink2Description: Datasheet; ComponentLink2URL: http://www.onsemi.com/pub_link/Collateral/1SMA10CAT3-D.PDF; ComponentLink3Description: Package Specification; ComponentLink3URL: http://www.onsemi.com/pub_link/Collateral/1SMA5913BT3-D.PDF
footprint ONSC-SMA-2-403D-02_F_V (Molded, 2-Leads, Body 4.32x2.6mm)
pins: 1 A1, 2 A2

## 1SMA13AT3G
designator D?
400 W Peak Power Zener Transient Voltage Suppressor, 2-Pin SMA, Pb-Free, Tape and Reel; Manufacturer: On Semiconductor; PartNumber: 1SMA13AT3G; Direction: Unidirectional; IR Max (uA): 2.5; PPK Max (W): 400; V(BR) Typ (V): 15.15; DatasheetVersion: Rev. 14; PackageVersion: Rev. F, 11/2008; PackageReference: SMA-2-403D-02_F; PackageDescription: 2-Pin Small Molded Package, J-Bend Lead, Body 2.605 x 4.315 mm; Supplier 1: Digi-Key; Supplier Part Number 1: 1SMA13AT3GOSTR-ND; Supplier 2: Digi-Key; Supplier Part Number 2: 1SMA13AT3GOSCT-ND; Supplier 3: Digi-Key; Supplier Part Number 3: 1SMA13AT3GOSDKR-ND; Supplier 4: Newark; Supplier Part Number 4: 71J9185; Supplier 5: Mouser; Supplier Part Number 5: 863-1SMA13AT3G; Packing: Tape and Reel; RoHS: Pb-Free; Mounting Technology: Surface Mount; ComponentLink1Description: Manufacturer URL; ComponentLink1URL: http://www.onsemi.com/; ComponentLink2Description: Datasheet; ComponentLink2URL: http://www.onsemi.com/pub_link/Collateral/1SMA5.0AT3-D.PDF; ComponentLink3Description: Package Specification; ComponentLink3URL: http://www.onsemi.com/pub_link/Collateral/1SMA5913BT3-D.PDF
footprint ONSC-SMA-2-403D-02_F_V (Molded, 2-Leads, Body 4.32x2.6mm)
pins: 1 K, 2 A

## 1SMA13CAT3
designator D?
400 W Peak Power Zener Transient Voltage Suppressor, 2-Pin SMA, Tape and Reel; Manufacturer: On Semiconductor; PartNumber: 1SMA13CAT3; Direction: Bidirectional; IR Max (uA): 2.5; PPK Max (W): 400; V(BR) Typ (V): 15.16; DatasheetVersion: Rev. 12; PackageVersion: Rev. F, 11/2008; PackageReference: SMA-2-403D-02_F; PackageDescription: 2-Pin Small Molded Package, J-Bend Lead, Body 2.605 x 4.315 mm; Supplier 1: Digi-Key; Supplier Part Number 1: 1SMA13CAT3-ND; Packing: Tape and Reel; Mounting Technology: Surface Mount; ComponentLink1Description: Manufacturer URL; ComponentLink1URL: http://www.onsemi.com/; ComponentLink2Description: Datasheet; ComponentLink2URL: http://www.onsemi.com/pub_link/Collateral/1SMA10CAT3-D.PDF; ComponentLink3Description: Package Specification; ComponentLink3URL: http://www.onsemi.com/pub_link/Collateral/1SMA5913BT3-D.PDF
footprint ONSC-SMA-2-403D-02_F_V (Molded, 2-Leads, Body 4.32x2.6mm)
pins: 1 A1, 2 A2

## 1SMA13CAT3G
designator D?
400 W Peak Power Zener Transient Voltage Suppressor, 2-Pin SMA, Pb-Free, Tape and Reel; Manufacturer: On Semiconductor; PartNumber: 1SMA13CAT3G; Direction: Bidirectional; IR Max (uA): 2.5; PPK Max (W): 400; V(BR) Typ (V): 15.16; DatasheetVersion: Rev. 12; PackageVersion: Rev. F, 11/2008; PackageReference: SMA-2-403D-02_F; PackageDescription: 2-Pin Small Molded Package, J-Bend Lead, Body 2.605 x 4.315 mm; Supplier 1: Digi-Key; Supplier Part Number 1: 1SMA13CAT3G-ND; Supplier 2: Newark; Supplier Part Number 2: 98H1002; Supplier 3: Mouser; Supplier Part Number 3: 863-1SMA13CAT3G; Packing: Tape and Reel; RoHS: Pb-Free; Mounting Technology: Surface Mount; ComponentLink1Description: Manufacturer URL; ComponentLink1URL: http://www.onsemi.com/; ComponentLink2Description: Datasheet; ComponentLink2URL: http://www.onsemi.com/pub_link/Collateral/1SMA10CAT3-D.PDF; ComponentLink3Description: Package Specification; ComponentLink3URL: http://www.onsemi.com/pub_link/Collateral/1SMA5913BT3-D.PDF
footprint ONSC-SMA-2-403D-02_F_V (Molded, 2-Leads, Body 4.32x2.6mm)
pins: 1 A1, 2 A2

## 1SMA14AT3G
designator D?
400 W Peak Power Zener Transient Voltage Suppressor, 2-Pin SMA, Pb-Free, Tape and Reel; Manufacturer: On Semiconductor; PartNumber: 1SMA14AT3G; Direction: Unidirectional; IR Max (uA): 2.5; PPK Max (W): 400; V(BR) Typ (V): 16.4; DatasheetVersion: Rev. 14; PackageVersion: Rev. F, 11/2008; PackageReference: SMA-2-403D-02_F; PackageDescription: 2-Pin Small Molded Package, J-Bend Lead, Body 2.605 x 4.315 mm; Supplier 1: Mouser; Supplier Part Number 1: 863-1SMA14AT3G; Packing: Tape and Reel; RoHS: Pb-Free; Mounting Technology: Surface Mount; ComponentLink1Description: Manufacturer URL; ComponentLink1URL: http://www.onsemi.com/; ComponentLink2Description: Datasheet; ComponentLink2URL: http://www.onsemi.com/pub_link/Collateral/1SMA5.0AT3-D.PDF; ComponentLink3Description: Package Specification; ComponentLink3URL: http://www.onsemi.com/pub_link/Collateral/1SMA5913BT3-D.PDF
footprint ONSC-SMA-2-403D-02_F_V (Molded, 2-Leads, Body 4.32x2.6mm)
pins: 1 K, 2 A

## 1SMA15AT3G
designator D?
400 W Peak Power Zener Transient Voltage Suppressor, 2-Pin SMA, Pb-Free, Tape and Reel; Manufacturer: On Semiconductor; PartNumber: 1SMA15AT3G; Direction: Unidirectional; IR Max (uA): 2.5; PPK Max (W): 400; V(BR) Typ (V): 17.6; DatasheetVersion: Rev. 14; PackageVersion: Rev. F, 11/2008; PackageReference: SMA-2-403D-02_F; PackageDescription: 2-Pin Small Molded Package, J-Bend Lead, Body 2.605 x 4.315 mm; Supplier 1: Digi-Key; Supplier Part Number 1: 1SMA15AT3GOSTR-ND; Supplier 2: Digi-Key; Supplier Part Number 2: 1SMA15AT3GOSCT-ND; Supplier 3: Digi-Key; Supplier Part Number 3: 1SMA15AT3GOSDKR-ND; Supplier 4: Newark; Supplier Part Number 4: 10N9651; Supplier 5: Newark; Supplier Part Number 5: 45J2407; Supplier 6: Mouser; Supplier Part Number 6: 863-1SMA15AT3G; Packing: Tape and Reel; RoHS: Pb-Free; Mounting Technology: Surface Mount; ComponentLink1Description: Manufacturer URL; ComponentLink1URL: http://www.onsemi.com/; ComponentLink2Description: Datasheet; ComponentLink2URL: http://www.onsemi.com/pub_link/Collateral/1SMA5.0AT3-D.PDF; ComponentLink3Description: Package Specification; ComponentLink3URL: http://www.onsemi.com/pub_link/Collateral/1SMA5913BT3-D.PDF
footprint ONSC-SMA-2-403D-02_F_V (Molded, 2-Leads, Body 4.32x2.6mm)
pins: 1 K, 2 A

## 1SMA15CAT3
designator D?
400 W Peak Power Zener Transient Voltage Suppressor, 2-Pin SMA, Tape and Reel; Manufacturer: On Semiconductor; PartNumber: 1SMA15CAT3; Direction: Bidirectional; IR Max (uA): 2.5; PPK Max (W): 400; V(BR) Typ (V): 17.58; DatasheetVersion: Rev. 12; PackageVersion: Rev. F, 11/2008; PackageReference: SMA-2-403D-02_F; PackageDescription: 2-Pin Small Molded Package, J-Bend Lead, Body 2.605 x 4.315 mm; Supplier 1: Digi-Key; Supplier Part Number 1: 1SMA15CAT3OSTR-ND; Supplier 2: Digi-Key; Supplier Part Number 2: 1SMA15CAT3OSCT-ND; Supplier 3: Digi-Key; Supplier Part Number 3: 1SMA15CAT3OSDKR-ND; Packing: Tape and Reel; Mounting Technology: Surface Mount; ComponentLink1Description: Manufacturer URL; ComponentLink1URL: http://www.onsemi.com/; ComponentLink2Description: Datasheet; ComponentLink2URL: http://www.onsemi.com/pub_link/Collateral/1SMA10CAT3-D.PDF; ComponentLink3Description: Package Specification; ComponentLink3URL: http://www.onsemi.com/pub_link/Collateral/1SMA5913BT3-D.PDF
footprint ONSC-SMA-2-403D-02_F_V (Molded, 2-Leads, Body 4.32x2.6mm)
pins: 1 A1, 2 A2

## 1SMA15CAT3G
designator D?
400 W Peak Power Zener Transient Voltage Suppressor, 2-Pin SMA, Pb-Free, Tape and Reel; Manufacturer: On Semiconductor; PartNumber: 1SMA15CAT3G; Direction: Bidirectional; IR Max (uA): 2.5; PPK Max (W): 400; V(BR) Typ (V): 17.58; DatasheetVersion: Rev. 12; PackageVersion: Rev. F, 11/2008; PackageReference: SMA-2-403D-02_F; PackageDescription: 2-Pin Small Molded Package, J-Bend Lead, Body 2.605 x 4.315 mm; Supplier 1: Digi-Key; Supplier Part Number 1: 1SMA15CAT3GOSTR-ND; Supplier 2: Digi-Key; Supplier Part Number 2: 1SMA15CAT3GOSCT-ND; Supplier 3: Digi-Key; Supplier Part Number 3: 1SMA15CAT3GOSDKR-ND; Supplier 4: Newark; Supplier Part Number 4: 98H1003; Supplier 5: Mouser; Supplier Part Number 5: 863-1SMA15CAT3G; Packing: Tape and Reel; RoHS: Pb-Free; Mounting Technology: Surface Mount; ComponentLink1Description: Manufacturer URL; ComponentLink1URL: http://www.onsemi.com/; ComponentLink2Description: Datasheet; ComponentLink2URL: http://www.onsemi.com/pub_link/Collateral/1SMA10CAT3-D.PDF; ComponentLink3Description: Package Specification; ComponentLink3URL: http://www.onsemi.com/pub_link/Collateral/1SMA5913BT3-D.PDF
footprint ONSC-SMA-2-403D-02_F_V (Molded, 2-Leads, Body 4.32x2.6mm)
pins: 1 A1, 2 A2

## 1SMA16AT3
designator D?
400 W Peak Power Zener Transient Voltage Suppressor, 2-Pin SMA, Tape and Reel; Manufacturer: On Semiconductor; PartNumber: 1SMA16AT3; Direction: Unidirectional; IR Max (uA): 2.5; PPK Max (W): 400; V(BR) Typ (V): 18.75; DatasheetVersion: Rev. 14; PackageVersion: Rev. F, 11/2008; PackageReference: SMA-2-403D-02_F; PackageDescription: 2-Pin Small Molded Package, J-Bend Lead, Body 2.605 x 4.315 mm; Packing: Tape and Reel; Mounting Technology: Surface Mount; ComponentLink1Description: Manufacturer URL; ComponentLink1URL: http://www.onsemi.com/; ComponentLink2Description: Datasheet; ComponentLink2URL: http://www.onsemi.com/pub_link/Collateral/1SMA5.0AT3-D.PDF; ComponentLink3Description: Package Specification; ComponentLink3URL: http://www.onsemi.com/pub_link/Collateral/1SMA5913BT3-D.PDF
footprint ONSC-SMA-2-403D-02_F_V (Molded, 2-Leads, Body 4.32x2.6mm)
pins: 1 K, 2 A

## 1SMA16AT3G
designator D?
400 W Peak Power Zener Transient Voltage Suppressor, 2-Pin SMA, Pb-Free, Tape and Reel; Manufacturer: On Semiconductor; PartNumber: 1SMA16AT3G; Direction: Unidirectional; IR Max (uA): 2.5; PPK Max (W): 400; V(BR) Typ (V): 18.75; DatasheetVersion: Rev. 14; PackageVersion: Rev. F, 11/2008; PackageReference: SMA-2-403D-02_F; PackageDescription: 2-Pin Small Molded Package, J-Bend Lead, Body 2.605 x 4.315 mm; Supplier 1: Digi-Key; Supplier Part Number 1: 1SMA16AT3G-ND; Supplier 2: Newark; Supplier Part Number 2: 98H1004; Supplier 3: Mouser; Supplier Part Number 3: 863-1SMA16AT3G; Packing: Tape and Reel; RoHS: Pb-Free; Mounting Technology: Surface Mount; ComponentLink1Description: Manufacturer URL; ComponentLink1URL: http://www.onsemi.com/; ComponentLink2Description: Datasheet; ComponentLink2URL: http://www.onsemi.com/pub_link/Collateral/1SMA5.0AT3-D.PDF; ComponentLink3Description: Package Specification; ComponentLink3URL: http://www.onsemi.com/pub_link/Collateral/1SMA5913BT3-D.PDF
footprint ONSC-SMA-2-403D-02_F_V (Molded, 2-Leads, Body 4.32x2.6mm)
pins: 1 K, 2 A

## 1SMA16CAT3G
designator D?
400 W Peak Power Zener Transient Voltage Suppressor, 2-Pin SMA, Pb-Free, Tape and Reel; Manufacturer: On Semiconductor; PartNumber: 1SMA16CAT3G; Direction: Bidirectional; IR Max (uA): 2.5; PPK Max (W): 400; V(BR) Typ (V): 18.74; DatasheetVersion: Rev. 12; PackageVersion: Rev. F, 11/2008; PackageReference: SMA-2-403D-02_F; PackageDescription: 2-Pin Small Molded Package, J-Bend Lead, Body 2.605 x 4.315 mm; Supplier 1: Digi-Key; Supplier Part Number 1: 1SMA16CAT3GOS-ND; Supplier 2: Newark; Supplier Part Number 2: 45J2408; Supplier 3: Mouser; Supplier Part Number 3: 863-1SMA16CAT3G; Packing: Tape and Reel; RoHS: Pb-Free; Mounting Technology: Surface Mount; ComponentLink1Description: Manufacturer URL; ComponentLink1URL: http://www.onsemi.com/; ComponentLink2Description: Datasheet; ComponentLink2URL: http://www.onsemi.com/pub_link/Collateral/1SMA10CAT3-D.PDF; ComponentLink3Description: Package Specification; ComponentLink3URL: http://www.onsemi.com/pub_link/Collateral/1SMA5913BT3-D.PDF
footprint ONSC-SMA-2-403D-02_F_V (Molded, 2-Leads, Body 4.32x2.6mm)
pins: 1 A1, 2 A2

## 1SMA17AT3G
designator D?
400 W Peak Power Zener Transient Voltage Suppressor, 2-Pin SMA, Pb-Free, Tape and Reel; Manufacturer: On Semiconductor; PartNumber: 1SMA17AT3G; Direction: Unidirectional; IR Max (uA): 2.5; PPK Max (W): 400; V(BR) Typ (V): 19.9; DatasheetVersion: Rev. 14; PackageVersion: Rev. F, 11/2008; PackageReference: SMA-2-403D-02_F; PackageDescription: 2-Pin Small Molded Package, J-Bend Lead, Body 2.605 x 4.315 mm; Supplier 1: Digi-Key; Supplier Part Number 1: 1SMA17AT3G-ND; Supplier 2: Mouser; Supplier Part Number 2: 863-1SMA17AT3G; Packing: Tape and Reel; RoHS: Pb-Free; Mounting Technology: Surface Mount; ComponentLink1Description: Manufacturer URL; ComponentLink1URL: http://www.onsemi.com/; ComponentLink2Description: Datasheet; ComponentLink2URL: http://www.onsemi.com/pub_link/Collateral/1SMA5.0AT3-D.PDF; ComponentLink3Description: Package Specification; ComponentLink3URL: http://www.onsemi.com/pub_link/Collateral/1SMA5913BT3-D.PDF
footprint ONSC-SMA-2-403D-02_F_V (Molded, 2-Leads, Body 4.32x2.6mm)
pins: 1 K, 2 A

## 1SMA18AT3G
designator D?
400 W Peak Power Zener Transient Voltage Suppressor, 2-Pin SMA, Pb-Free, Tape and Reel; Manufacturer: On Semiconductor; PartNumber: 1SMA18AT3G; Direction: Unidirectional; IR Max (uA): 2.5; PPK Max (W): 400; V(BR) Typ (V): 21.05; DatasheetVersion: Rev. 14; PackageVersion: Rev. F, 11/2008; PackageReference: SMA-2-403D-02_F; PackageDescription: 2-Pin Small Molded Package, J-Bend Lead, Body 2.605 x 4.315 mm; Supplier 1: Digi-Key; Supplier Part Number 1: 1SMA18AT3G-ND; Supplier 2: Newark; Supplier Part Number 2: 98H1005; Supplier 3: Mouser; Supplier Part Number 3: 863-1SMA18AT3G; Packing: Tape and Reel; RoHS: Pb-Free; Mounting Technology: Surface Mount; ComponentLink1Description: Manufacturer URL; ComponentLink1URL: http://www.onsemi.com/; ComponentLink2Description: Datasheet; ComponentLink2URL: http://www.onsemi.com/pub_link/Collateral/1SMA5.0AT3-D.PDF; ComponentLink3Description: Package Specification; ComponentLink3URL: http://www.onsemi.com/pub_link/Collateral/1SMA5913BT3-D.PDF
footprint ONSC-SMA-2-403D-02_F_V (Molded, 2-Leads, Body 4.32x2.6mm)
pins: 1 K, 2 A

## 1SMA18CAT3G
designator D?
400 W Peak Power Zener Transient Voltage Suppressor, 2-Pin SMA, Pb-Free, Tape and Reel; Manufacturer: On Semiconductor; PartNumber: 1SMA18CAT3G; Direction: Bidirectional; IR Max (uA): 2.5; PPK Max (W): 400; V(BR) Typ (V): 21.06; DatasheetVersion: Rev. 12; PackageVersion: Rev. F, 11/2008; PackageReference: SMA-2-403D-02_F; PackageDescription: 2-Pin Small Molded Package, J-Bend Lead, Body 2.605 x 4.315 mm; Supplier 1: Digi-Key; Supplier Part Number 1: 1SMA18CAT3GOSTR-ND; Supplier 2: Digi-Key; Supplier Part Number 2: 1SMA18CAT3GOSCT-ND; Supplier 3: Digi-Key; Supplier Part Number 3: 1SMA18CAT3GOSDKR-ND; Supplier 4: Newark; Supplier Part Number 4: 45J2409; Supplier 5: Mouser; Supplier Part Number 5: 863-1SMA18CAT3G; Packing: Tape and Reel; RoHS: Pb-Free; Mounting Technology: Surface Mount; ComponentLink1Description: Manufacturer URL; ComponentLink1URL: http://www.onsemi.com/; ComponentLink2Description: Datasheet; ComponentLink2URL: http://www.onsemi.com/pub_link/Collateral/1SMA10CAT3-D.PDF; ComponentLink3Description: Package Specification; ComponentLink3URL: http://www.onsemi.com/pub_link/Collateral/1SMA5913BT3-D.PDF
footprint ONSC-SMA-2-403D-02_F_V (Molded, 2-Leads, Body 4.32x2.6mm)
pins: 1 A1, 2 A2

## 1SMA20AT3G
designator D?
400 W Peak Power Zener Transient Voltage Suppressor, 2-Pin SMA, Pb-Free, Tape and Reel; Manufacturer: On Semiconductor; PartNumber: 1SMA20AT3G; Direction: Unidirectional; IR Max (uA): 2.5; PPK Max (W): 400; V(BR) Typ (V): 23.35; DatasheetVersion: Rev. 14; PackageVersion: Rev. F, 11/2008; PackageReference: SMA-2-403D-02_F; PackageDescription: 2-Pin Small Molded Package, J-Bend Lead, Body 2.605 x 4.315 mm; Supplier 1: Digi-Key; Supplier Part Number 1: 1SMA20AT3G-ND; Supplier 2: Newark; Supplier Part Number 2: 45J2410; Supplier 3: Mouser; Supplier Part Number 3: 863-1SMA20AT3G; Packing: Tape and Reel; RoHS: Pb-Free; Mounting Technology: Surface Mount; ComponentLink1Description: Manufacturer URL; ComponentLink1URL: http://www.onsemi.com/; ComponentLink2Description: Datasheet; ComponentLink2URL: http://www.onsemi.com/pub_link/Collateral/1SMA5.0AT3-D.PDF; ComponentLink3Description: Package Specification; ComponentLink3URL: http://www.onsemi.com/pub_link/Collateral/1SMA5913BT3-D.PDF
footprint ONSC-SMA-2-403D-02_F_V (Molded, 2-Leads, Body 4.32x2.6mm)
pins: 1 K, 2 A

## 1SMA20CAT3
designator D?
400 W Peak Power Zener Transient Voltage Suppressor, 2-Pin SMA, Tape and Reel; Manufacturer: On Semiconductor; PartNumber: 1SMA20CAT3; Direction: Bidirectional; IR Max (uA): 2.5; PPK Max (W): 400; V(BR) Typ (V): 23.37; DatasheetVersion: Rev. 12; PackageVersion: Rev. F, 11/2008; PackageReference: SMA-2-403D-02_F; PackageDescription: 2-Pin Small Molded Package, J-Bend Lead, Body 2.605 x 4.315 mm; Supplier 1: Digi-Key; Supplier Part Number 1: 1SMA20CAT3-ND; Packing: Tape and Reel; Mounting Technology: Surface Mount; ComponentLink1Description: Manufacturer URL; ComponentLink1URL: http://www.onsemi.com/; ComponentLink2Description: Datasheet; ComponentLink2URL: http://www.onsemi.com/pub_link/Collateral/1SMA10CAT3-D.PDF; ComponentLink3Description: Package Specification; ComponentLink3URL: http://www.onsemi.com/pub_link/Collateral/1SMA5913BT3-D.PDF
footprint ONSC-SMA-2-403D-02_F_V (Molded, 2-Leads, Body 4.32x2.6mm)
pins: 1 A1, 2 A2

## 1SMA20CAT3G
designator D?
400 W Peak Power Zener Transient Voltage Suppressor, 2-Pin SMA, Pb-Free, Tape and Reel; Manufacturer: On Semiconductor; PartNumber: 1SMA20CAT3G; Direction: Bidirectional; IR Max (uA): 2.5; PPK Max (W): 400; V(BR) Typ (V): 23.37; DatasheetVersion: Rev. 12; PackageVersion: Rev. F, 11/2008; PackageReference: SMA-2-403D-02_F; PackageDescription: 2-Pin Small Molded Package, J-Bend Lead, Body 2.605 x 4.315 mm; Supplier 1: Digi-Key; Supplier Part Number 1: 1SMA20CAT3G-ND; Supplier 2: Newark; Supplier Part Number 2: 45J2411; Supplier 3: Mouser; Supplier Part Number 3: 863-1SMA20CAT3G; Packing: Tape and Reel; RoHS: Pb-Free; Mounting Technology: Surface Mount; ComponentLink1Description: Manufacturer URL; ComponentLink1URL: http://www.onsemi.com/; ComponentLink2Description: Datasheet; ComponentLink2URL: http://www.onsemi.com/pub_link/Collateral/1SMA10CAT3-D.PDF; ComponentLink3Description: Package Specification; ComponentLink3URL: http://www.onsemi.com/pub_link/Collateral/1SMA5913BT3-D.PDF
footprint ONSC-SMA-2-403D-02_F_V (Molded, 2-Leads, Body 4.32x2.6mm)
pins: 1 A1, 2 A2